# Altium footprint library CAP-TAN-D.PcbLib: 1 footprints
Each footprint in its own frame and in the unit in brackets; x right, y up, seen from the top. Pads: shape width x height; smd on the part's side, far side on the other; paste and mask are expansions set on the pad; w line width, h text height; cw(c..) or ccw(c..) is an arc to the next point about the centre after c.
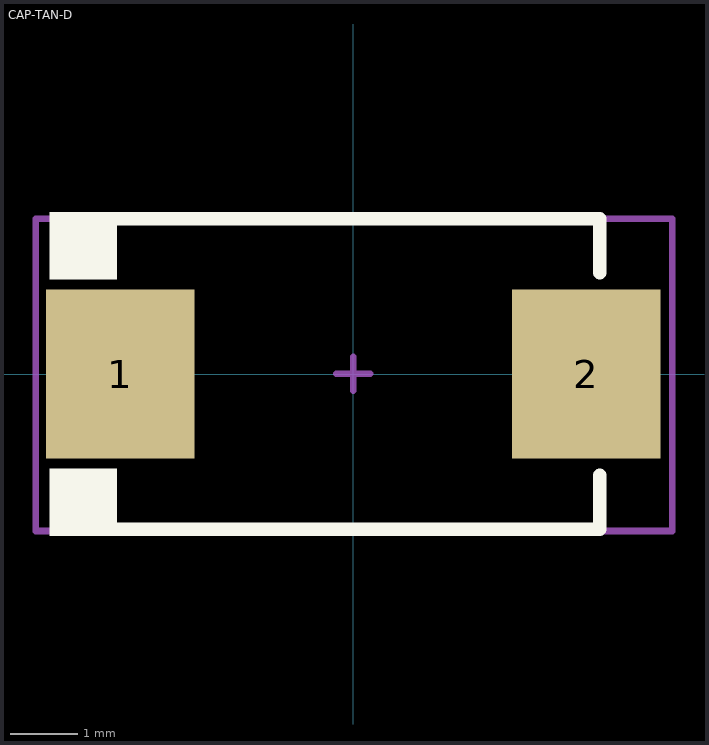
[diagram p0: the footprint, top view; thin cyan lines are the x and y axes]

## CAP-TAN-D [mm]
height 0.95
pads (2):
  rect 2.2x2.5 smd: 1(-3.45,0) 2(3.45,0)
Top Overlay:
  rectangle: -4.5,-2.4 -3.5,-1.4
  rectangle: -4.5,1.4 -3.5,2.4
  lines w0.2: -3.65,-1.5 -3.65,-2.3 3.65,-2.3 3.65,-1.5 ; -3.65,1.5 -3.65,2.3 3.65,2.3 3.65,1.5
Top Assembly:
  lines w0.1: -0.247,0.003 0.253,0.003 ; 0.003,-0.247 0.003,0.253 ; -4.7,-2.325 4.725,-2.325 4.725,2.3 -4.7,2.3 -4.7,-2.325
  text "'.Designator'" at 0.003,0.003 h0.7
3D body "User Library-CAP_TANT_7343-40.STEP": height 4, standoff 0, extent -3.8,-2.3 3.8,2.3